# Altium schematic symbol library BWRC.SchLib: 201 symbols (part 2 of 6)
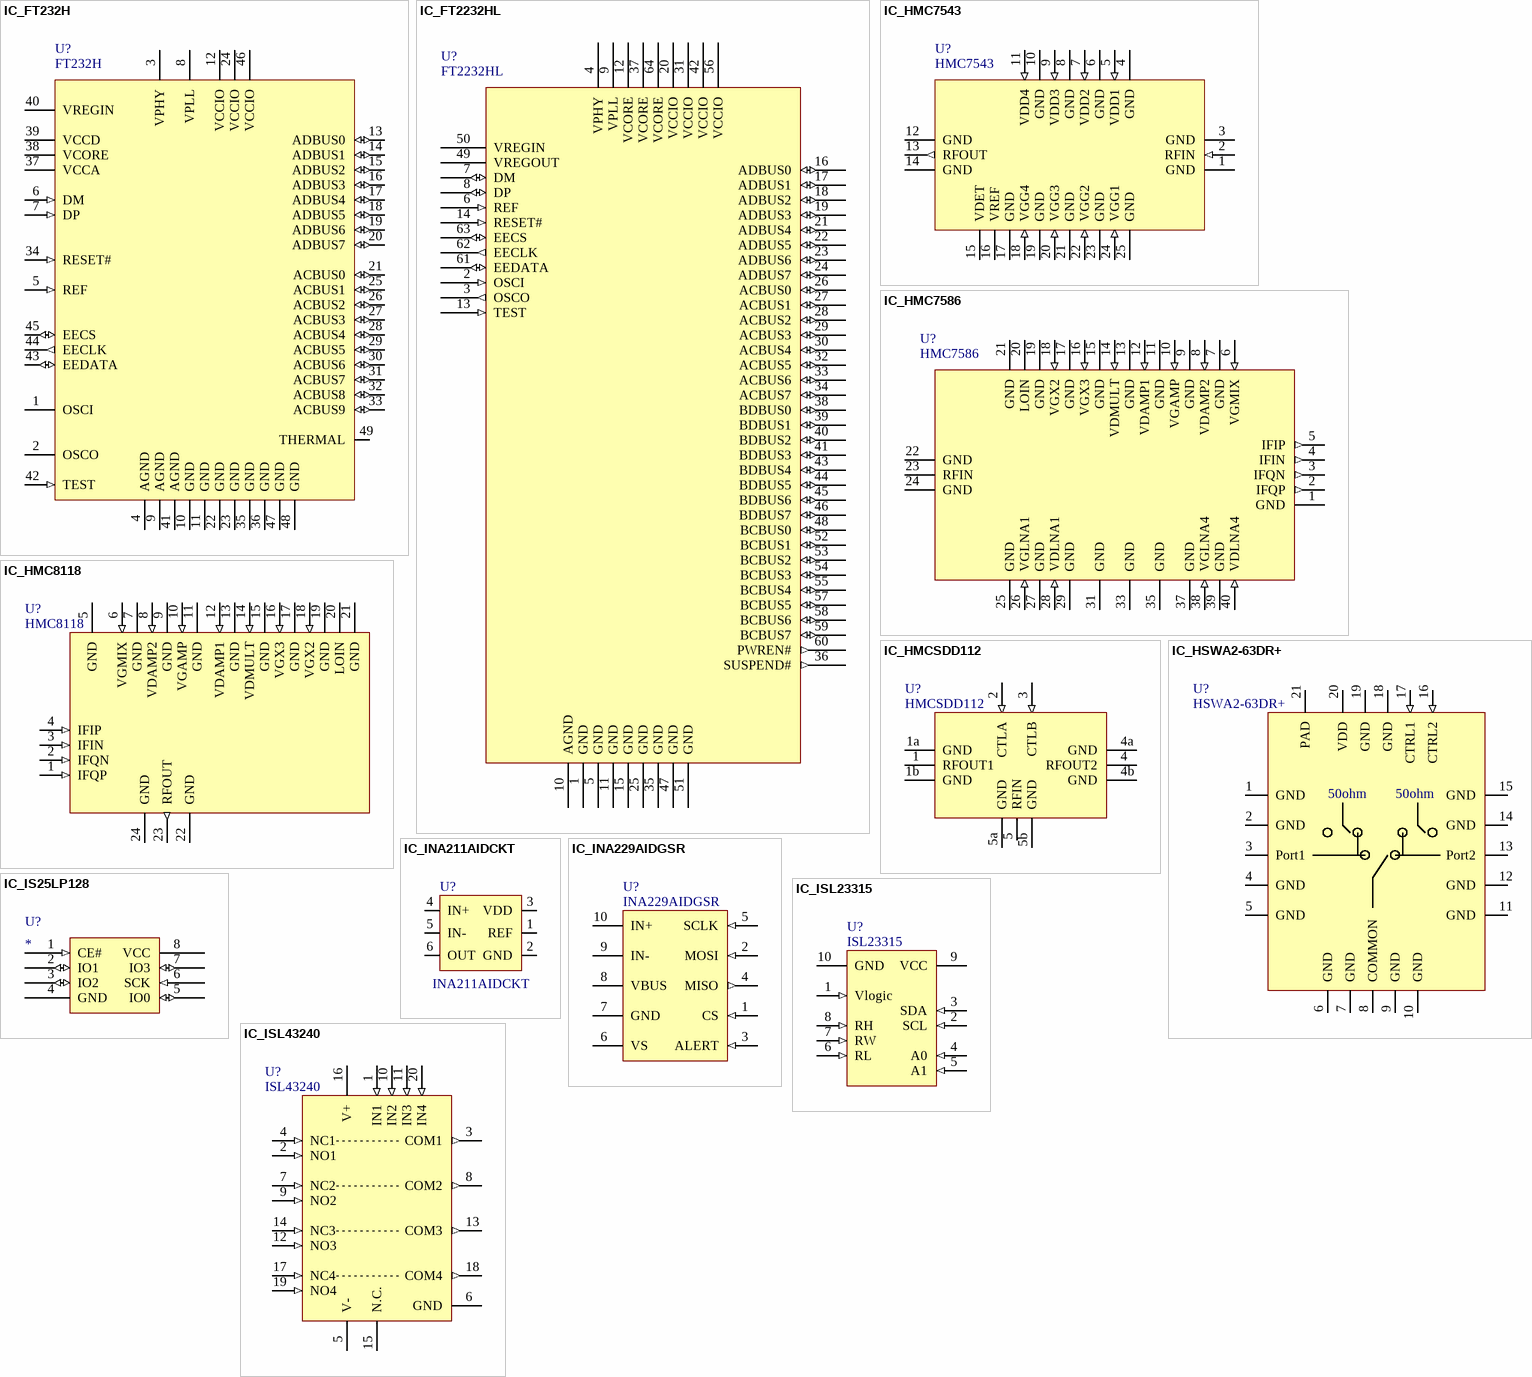
[diagram p32: symbols IC_FT232H to IC_ISL43240]

## IC_HMC7543
designator U?, comment HMC7543
HMC7543 Power amplifier E-band
pins: 1 GND (power), 2 RFIN (in), 3 GND (power), 4 GND (power), 5 VDD1 (in), 6 GND (power), 7 VDD2 (in), 8 GND (power), 9 VDD3 (in), 10 GND (power), 11 VDD4 (in), 12 GND (power), 13 RFOUT (out), 14 GND (power), 15 VDET, 16 VREF, 17 GND (power), 18 VGG4 (in), 19 GND (power), 20 VGG3 (in), 21 GND (power), 22 VGG2 (in), 23 GND (power), 24 VGG1 (in), 25 GND (power)

## IC_HMC7586
designator U?, comment HMC7586
HMC7586 LNA/downconverter E-band
pins: 1 GND (power), 2 IFQP (out), 3 IFQN (out), 4 IFIN (out), 5 IFIP (out), 6 VGMIX (in), 7 GND (power), 8 VDAMP2 (in), 9 GND (power), 10 VGAMP (in), 11 GND (power), 12 VDAMP1 (in), 13 GND (power), 14 VDMULT (in), 15 GND (power), 16 VGX3 (in), 17 GND (power), 18 VGX2 (in), 19 GND (power), 20 LOIN, 21 GND (power), 22 GND (power), 23 RFIN, 24 GND (power), 25 GND (power), 26 VGLNA1 (in), 27 GND (power), 28 VDLNA1 (in), 29 GND (power), 31 GND (power), 33 GND (power), 35 GND (power), 37 GND (power), 38 VGLNA4 (in), 39 GND (power), 40 VDLNA4 (in)

## IC_HMC8118
designator U?, comment HMC8118
HMC8118 Upconverter E-band
pins: 1 IFQP (in), 2 IFQN (in), 3 IFIN (in), 4 IFIP (in), 5 GND (power), 6 VGMIX (in), 7 GND (power), 8 VDAMP2 (in), 9 GND (power), 10 VGAMP (in), 11 GND (power), 12 VDAMP1 (in), 13 GND (power), 14 VDMULT (in), 15 GND (power), 16 VGX3 (in), 17 GND (power), 18 VGX2 (in), 19 GND (power), 20 LOIN, 21 GND (power), 22 GND (power), 23 RFOUT (out), 24 GND (power)

## IC_HMCSDD112
designator U?, comment HMCSDD112
HMCSDD112 Tx/Rcv SPDT RF switch
pins: 1 RFOUT1, 1a GND, 1b GND, 2 CTLA (in), 3 CTLB (in), 4 RFOUT2, 4a GND, 4b GND, 5 RFIN, 5a GND, 5b GND

## IC_HSWA2-63DR+
designator U?, comment HSWA2-63DR+
HSWA2-63DR+ RF T/R switch
pins: 1 GND (power), 2 GND (power), 3 Port1, 4 GND (power), 5 GND (power), 6 GND (power), 7 GND (power), 8 COMMON, 9 GND (power), 10 GND (power), 11 GND (power), 12 GND (power), 13 Port2, 14 GND (power), 15 GND (power), 16 CTRL2 (in), 17 CTRL1 (in), 18 GND (power), 19 GND (power), 20 VDD (power), 21 PAD (power)
text: 50ohm

## IC_INA211AIDCKT
designator U?, comment INA211AIDCKT
Current sense amplifier
pins: 1 REF, 2 GND, 3 VDD, 4 IN+, 5 IN-, 6 OUT

## IC_INA229AIDGSR
designator U?, comment INA229AIDGSR
85-V, 20-bit, ultra-precise, SPI output current/voltage/power/energy/charge monitor with alert</p 10-VSSOP -40 to 125
pins: 1 CS (in), 2 MOSI (in), 3 ALERT (in), 4 MISO (out), 5 SCLK (in), 6 VS (power), 7 GND (power), 8 VBUS, 9 IN-, 10 IN+

## IC_IS25LP128
designator U?
Flash memory 128Mb with 133MHz QSPI
pins: 1 CE# (in), 2 IO1 (io), 3 IO2 (io), 4 GND (power), 5 IO0 (io), 6 SCK (in), 7 IO3 (io), 8 VCC (power)

## IC_ISL23315
designator U?, comment ISL23315
ISL23315 potentiometer digital 10K 256 positions
pins: 1 Vlogic (in), 2 SCL (in), 3 SDA (in), 4 A0 (in), 5 A1 (in), 6 RL (in), 7 RW (in), 8 RH (in), 9 VCC (power), 10 GND (power)

## IC_ISL43240
designator U?, comment ISL43240
ISL43240 switch SPDT quad
pins: 1 IN1 (in), 2 NO1 (in), 3 COM1 (out), 4 NC1 (in), 5 V- (power), 6 GND (power), 7 NC2 (in), 8 COM2 (out), 9 NO2 (in), 10 IN2 (in), 11 IN3 (in), 12 NO3 (in), 13 COM3 (out), 14 NC3 (in), 15 N.C., 16 V+ (power), 17 NC4 (in), 18 COM4 (out), 19 NO4 (in), 20 IN4 (in)

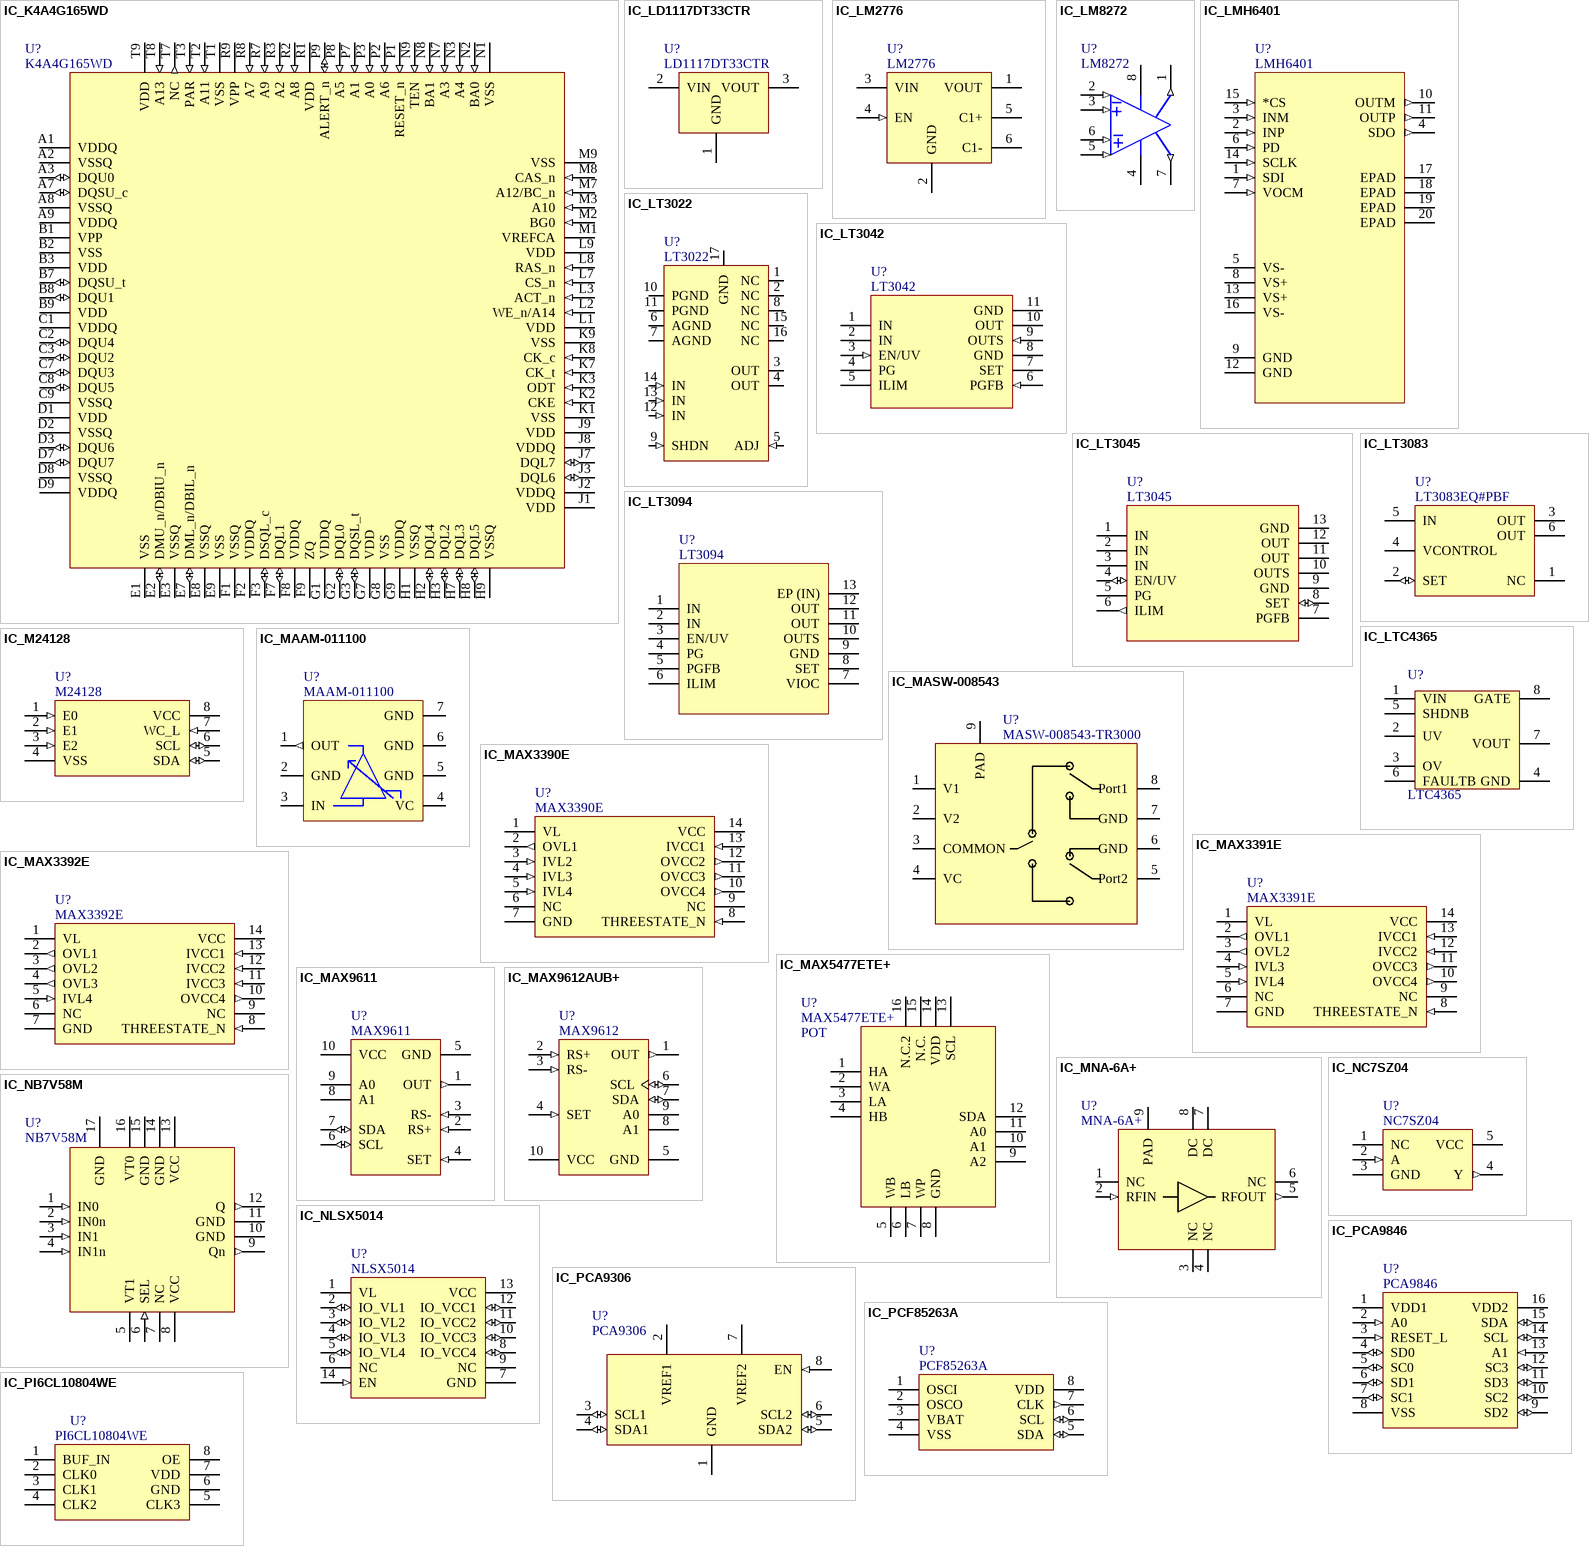
[diagram p9: symbols IC_K4A4G165WD to IC_PI6CL10804WE]

## IC_K4A4G165WD
designator U?, comment K4A4G165WD
K4A4G165WD DDR4 16-bit
pins: A1 VDDQ (power), A2 VSSQ (power), A3 DQU0 (io), A7 DQSU_c (io), A8 VSSQ (power), A9 VDDQ (power), B1 VPP (power), B2 VSS (power), B3 VDD (power), B7 DQSU_t (io), B8 DQU1 (io), B9 VDD (power), C1 VDDQ (power), C2 DQU4 (io), C3 DQU2 (io), C7 DQU3 (io), C8 DQU5 (io), C9 VSSQ (power), D1 VDD (power), D2 VSSQ (power), D3 DQU6 (io), D7 DQU7 (io), D8 VSSQ (power), D9 VDDQ (power), E1 VSS (power), E2 DMU_n/DBIU_n (io), E3 VSSQ (power), E7 DML_n/DBIL_n (io), E8 VSSQ (power), E9 VSS (power), F1 VSSQ (power), F2 VDDQ (power), F3 DSQL_c (io), F7 DQL1 (io), F8 VDDQ (power), F9 ZQ (power), G1 VDDQ (power), G2 DQL0 (io), G3 DQSL_t (io), G7 VDD (power), G8 VSS (power), G9 VDDQ (power), H1 VSSQ (power), H2 DQL4 (io), H3 DQL2 (io), H7 DQL3 (io), H8 DQL5 (io), H9 VSSQ (power), J1 VDD (power), J2 VDDQ (power), J3 DQL6 (io), J7 DQL7 (io), J8 VDDQ (power), J9 VDD (power), K1 VSS (power), K2 CKE (in), K3 ODT (in), K7 CK_t (in), K8 CK_c (in), K9 VSS (power), L1 VDD (power), L2 WE_n/A14 (in), L3 ACT_n (in), L7 CS_n (in), L8 RAS_n (in), L9 VDD (power), M1 VREFCA (power), M2 BG0 (in), M3 A10 (in), M7 A12/BC_n (in), M8 CAS_n (in), M9 VSS (power), N1 VSS (power), N2 BA0 (in), N3 A4 (in), N7 A3 (in), N8 BA1 (in), N9 TEN (in), P1 RESET_n (in), P2 A6 (in), P3 A0 (in), P7 A1 (in), P8 A5 (in), P9 ALERT_n (io), R1 VDD (power), R2 A8 (in), R3 A2 (in), R7 A9 (in), R8 A7 (in), R9 VPP (power), T1 VSS (power), T2 A11 (in), T3 PAR (in), T7 NC (out), T8 A13 (in), T9 VDD (power)

## IC_LD1117DT33CTR
designator U?, comment LD1117DT33CTR
LD1117DT33CTR 3.3V voltage regulator
pins: 1 GND (power), 2 VIN (power), 3 VOUT (power)

## IC_LM2776
designator U?, comment LM2776
LM2776 voltage inverter
pins: 1 VOUT (power), 2 GND (power), 3 VIN (power), 4 EN (in), 5 C1+, 6 C1-

## IC_LM8272
designator U?, comment LM8272
LM8272 op-amp RRIO high output current & unlimited cap load
pins: 1 OUTA (out), 2 INA- (in), 3 INA+ (in), 4 V- (power), 5 INB+ (in), 6 INB- (in), 7 OUTB (out), 8 V+ (power)

## IC_LMH6401
designator U?, comment LMH6401
4.5 GHz ultra wideband digital variable gain amplifier
pins: 1 SDI (in), 2 INP (in), 3 INM (in), 4 SDO (out), 5 VS- (power), 6 PD (in), 7 VOCM (in), 8 VS+ (power), 9 GND (power), 10 OUTM (out), 11 OUTP (out), 12 GND (power), 13 VS+ (power), 14 SCLK (in), 15 *CS (in), 16 VS- (power), 17 EPAD, 18 EPAD, 19 EPAD, 20 EPAD

## IC_LT3022
designator U?, comment LT3022
LT3022 regulator LDO adjustable 1A
pins: 1 NC (power), 2 NC (power), 3 OUT (power), 4 OUT (power), 5 ADJ (in), 6 AGND (power), 7 AGND (power), 8 NC (power), 9 SHDN (in), 10 PGND (power), 11 PGND (power), 12 IN (in), 13 IN (in), 14 IN (in), 15 NC (power), 16 NC (power), 17 GND (power)

## IC_LT3042
designator U?, comment LT3042
LT3042 ultralow noise, high PSRR LDO, max current 200mA
pins: 1 IN, 2 IN, 3 EN/UV (in), 4 PG (power), 5 ILIM, 6 PGFB (in), 7 SET, 8 GND (power), 9 OUTS (in), 10 OUT (power), 11 GND (power)

## IC_LT3045
designator U?, comment LT3045
LT3045 ultralow noise, high PSRR LDO, max current 500mA
pins: 1 IN, 2 IN, 3 IN, 4 EN/UV (io), 5 PG (power), 6 ILIM (out), 7 PGFB, 8 SET (io), 9 GND (power), 10 OUTS, 11 OUT, 12 OUT, 13 GND (power)

## IC_LT3083
designator U?, comment LT3083EQ#PBF
3 A Single Resistor Low Dropout Regulator, 1.2 to 23 V Vin, Adjustable Vout, 5-pin DPAK (Q-5), -40 to 125 degC, Pb-Free
footprint LT-Q-5_L (DPAK, 5-Leads, Body 10.22x8.89mm, Pitch 1.702mm, IPC High Density)
footprint LT-Q-5_M (DPAK, 5-Leads, Body 10.22x8.89mm, Pitch 1.702mm, IPC Low Density)
pins: 1 NC "No Connection. No Connect pins have no connection to internal circuitry and may be tied to VIN, VCONTROL, VOUT, GND, or floated.", 2 SET (io) "Set Point. This pin is the non-inverting input to the error amplifier and the regulation set point. A fixed current of 50uA flows out of this pin through a single external resistor, which programs the output voltage of the (See Datasheet)", 3 OUT (power) "Output. The exposed pad of the DF package (Pin 13) and the FE package (Pin 17) and the Tab of the DD-PAK and TO-220 packages is an electrical connection to OUT. Connect the exposed pad of the DF and FE packages and the Tab (See Datasheet)", 4 VCONTROL (power) "Bias Supply. This is the supply pin for the control circuitry of the device. Minimum input capacitance is 2.2uF (see Input Capacitance and Stability in the Applications Information section). The current flow into this pin is (See Datasheet)", 5 IN (power) "Power Input. This is the collector to the power device of the LT3083. The output load current is supplied through this pin. Minimum IN capacitance is 10uF (see Input Capacitance and Stability in Applications Information (See Datasheet)", 6 OUT (power) "TAB IS OUT."

## IC_LT3094
designator U?, comment LT3094
LT3094 Ultralow Noise, Ultrahigh PSRR Negative Linear Regulator
pins: 1 IN, 2 IN, 3 EN/UV, 4 PG, 5 PGFB, 6 ILIM, 7 VIOC, 8 SET, 9 GND, 10 OUTS, 11 OUT, 12 OUT, 13 EP (IN)

## IC_LTC4365
designator U?, comment LTC4365
LTC4365 Over/Under Voltage, Reverse Supply Protection Controller
pins: 1 VIN, 2 UV, 3 OV, 4 GND, 5 SHDNB, 6 FAULTB, 7 VOUT, 8 GATE

## IC_M24128
designator U?, comment M24128
M24128 EEPROM 16KiB (128Kib) I2C
pins: 1 E0 (in), 2 E1 (in), 3 E2 (in), 4 VSS (power), 5 SDA (io), 6 SCL (io), 7 WC_L (in), 8 VCC (power)

## IC_MAAM-011100
designator U?, comment MAAM-011100
MAAM-011100 High-frequency variable gain amplifier
pins: 1 OUT (out), 2 GND (power), 3 IN, 4 VC, 5 GND (power), 6 GND (power), 7 GND (power)

## IC_MASW-008543
designator U?, comment MASW-008543-TR3000
MASW-008543-TR3000 RF T/R switch
pins: 1 V1, 2 V2, 3 COMMON, 4 VC, 5 Port2, 6 GND (power), 7 GND (power), 8 Port1, 9 PAD (power)

## IC_MAX3390E
designator U?, comment MAX3390E
MAX3390E Maxim 33-series level translator with 3 low-voltage inputs and 1 low-voltage output. Useful for low-to-high SPI buses. TSSOP-14 pinout used.
pins: 1 VL (power) "low voltage supply", 2 OVL1 (out) "channel 1 out (low voltage)", 3 IVL2 (in) "channel 2 in (low voltage)", 4 IVL3 (in) "channel 3 in (low voltage)", 5 IVL4 (in) "channel 4 in (low voltage)", 6 NC (hiz) "do not connect", 7 GND (power) "ground", 8 THREESTATE_N (in) "(low voltage) high = outputs enabled, low = outputs disabled", 9 NC (hiz) "do not connect", 10 OVCC4 (out) "channel 4 out (high voltage)", 11 OVCC3 (out) "channel 3 out (high voltage)", 12 OVCC2 (out) "channel 2 out (high voltage)", 13 IVCC1 (in) "channel 1 in (high voltage)", 14 VCC (power) "high voltage supply"

## IC_MAX3391E
designator U?, comment MAX3391E
MAX3391E Maxim 33-series level translator with 2 low-voltage inputs and 2 low-voltage outputs. TSSOP-14 pinout used.
pins: 1 VL (power) "low voltage supply", 2 OVL1 (out) "channel 1 out (low voltage)", 3 OVL2 (out) "channel 2 out (low voltage)", 4 IVL3 (in) "channel 3 in (low voltage)", 5 IVL4 (in) "channel 4 in (low voltage)", 6 NC (hiz) "do not connect", 7 GND (power) "ground", 8 THREESTATE_N (in) "(low voltage) high = outputs enabled, low = outputs disabled", 9 NC (hiz) "do not connect", 10 OVCC4 (out) "channel 4 out (high voltage)", 11 OVCC3 (out) "channel 3 out (high voltage)", 12 IVCC2 (in) "channel 2 in (high voltage)", 13 IVCC1 (in) "channel 1 in (high voltage)", 14 VCC (power) "high voltage supply"

## IC_MAX3392E
designator U?, comment MAX3392E
MAX3392E Maxim 33-series level translator with 1 low-voltage input and 3 low-voltage outputs. TSSOP-14 pinout used.
pins: 1 VL (power) "low voltage supply", 2 OVL1 (out) "channel 1 out (low voltage)", 3 OVL2 (out) "channel 2 out (low voltage)", 4 OVL3 (out) "channel 3 out (low voltage)", 5 IVL4 (in) "channel 4 in (low voltage)", 6 NC (hiz) "do not connect", 7 GND (power) "ground", 8 THREESTATE_N (in) "(low voltage) high = outputs enabled, low = outputs disabled", 9 NC (hiz) "do not connect", 10 OVCC4 (out) "channel 4 out (high voltage)", 11 IVCC3 (in) "channel 3 in (high voltage)", 12 IVCC2 (in) "channel 2 in (high voltage)", 13 IVCC1 (in) "channel 1 in (high voltage)", 14 VCC (power) "high voltage supply"

## IC_MAX5477ETE+
designator U?, comment MAX5477ETE+
MAX5477ETE+ Digital pot 256pos 10K dual 16-Pin TQFN EP
pins: 1 HA, 2 WA, 3 LA, 4 HB, 5 WB, 6 LB, 7 WP, 8 GND, 9 A2, 10 A1, 11 A0, 12 SDA, 13 SCL, 14 VDD, 15 N.C., 16 N.C.2
text: POT

## IC_MAX9611
designator U?, comment MAX9611
MAX9611 op-amp current sense 2.5MHz
pins: 1 OUT (out), 2 RS+ (in), 3 RS- (in), 4 SET (in), 5 GND (power), 6 SCL (io), 7 SDA (io), 8 A1, 9 A0, 10 VCC

## IC_MAX9612AUB+
designator U?, comment MAX9612
MAX9612 High-side Current-Sense Amplifier with 12-bit I2C ADC and Op Amp / Comparator - Inverting, Adjustable Gain
pins: 1 OUT (out) "Internal Amplifier/Comparator Output", 2 RS+ (in) "Positive Current-Sensing Input. Power side connects to external sense resistor.", 3 RS- (in) "Negative Current-Sensing Input. Load side connects to external sense resistor.", 4 SET (in) "External Set-Point Voltage", 5 GND (power) "Ground", 6 SCL (io) "I2C Interface Clock Input", 7 SDA (io) "I2C Interface Data Input/Output", 8 A1 "Address Input 1", 9 A0 "Address Input 0", 10 VCC (power) "Supply Voltage Input. Bypass VCC to GND with a 0.1uF and a 4.7uF capacitor in parallel."

## IC_MNA-6A+
designator U?, comment MNA-6A+
MNA-6A+ RF power amplifier
pins: 1 NC, 2 RFIN (in), 3 NC, 4 NC, 5 RFOUT (out), 6 NC, 7 DC, 8 DC, 9 PAD (power)

## IC_NB7V58M
designator U?, comment NB7V58M
NB7V58M LVDS Clock/Data Multiplexer
pins: 1 IN0 (in) "Input 0 +", 2 IN0n (in) "Input 0 -", 3 IN1 (in) "Input 1 +", 4 IN1n (in) "Input 1 -", 5 VT1 "Term voltage 1", 6 SEL (in) "Select (pulled-high)", 7 NC (hiz) "No connect", 8 VCC (power) "Supply", 9 Qn (out) "Output -", 10 GND (power) "Ground", 11 GND (power) "Ground", 12 Q (out) "Output +", 13 VCC (power) "Supply", 14 GND (power) "Ground", 15 GND (power) "Ground", 16 VT0 "Term voltage 0", 17 GND (power) "Ground"

## IC_NC7SZ04
designator U?, comment NC7SZ04
NC7SZ04 Logic Inverter
pins: 1 NC (hiz), 2 A (in), 3 GND (power), 4 Y (out), 5 VCC (power)

## IC_NLSX5014
designator U?, comment NLSX5014
NLSX5014 level shifter bidirectional 4-channel
pins: 1 VL (power), 2 IO_VL1 (io), 3 IO_VL2 (io), 4 IO_VL3 (io), 5 IO_VL4 (io), 6 NC (hiz), 7 GND (power), 8 IO_VCC4 (io), 9 NC (hiz), 10 IO_VCC3 (io), 11 IO_VCC2 (io), 12 IO_VCC1 (io), 13 VCC (power), 14 EN (in)

## IC_PCA9306
designator U?, comment PCA9306
PCA9306 level shifter I2C
pins: 1 GND (power), 2 VREF1 (power), 3 SCL1 (io), 4 SDA1 (io), 5 SDA2 (io), 6 SCL2 (io), 7 VREF2 (power), 8 EN (in)

## IC_PCA9846
designator U?, comment PCA9846
PCA9846 low voltage 4:1 mux with level-shifting I2C
pins: 1 VDD1 (power), 2 A0 (in), 3 RESET_L (in), 4 SD0 (io), 5 SC0 (io), 6 SD1 (io), 7 SC1 (io), 8 VSS (power), 9 SD2 (io), 10 SC2 (io), 11 SD3 (io), 12 SC3 (io), 13 A1 (in), 14 SCL (io), 15 SDA (io), 16 VDD2 (power)

## IC_PCF85263A
designator U?, comment PCF85263A
PCF85263A real time clock w/ battery input I2C
pins: 1 OSCI, 2 OSCO, 3 VBAT (power), 4 VSS (power), 5 SDA (io), 6 SCL (io), 7 CLK (out), 8 VDD (power)

## IC_PI6CL10804WE
designator U?, comment PI6CL10804WE
1:4 Clock Buffer, Max 200MHz, 3.3V tolerant input, 1.2V or 1.5V supply voltage
pins: 1 BUF_IN, 2 CLK0, 3 CLK1, 4 CLK2, 5 CLK3, 6 GND, 7 VDD, 8 OE

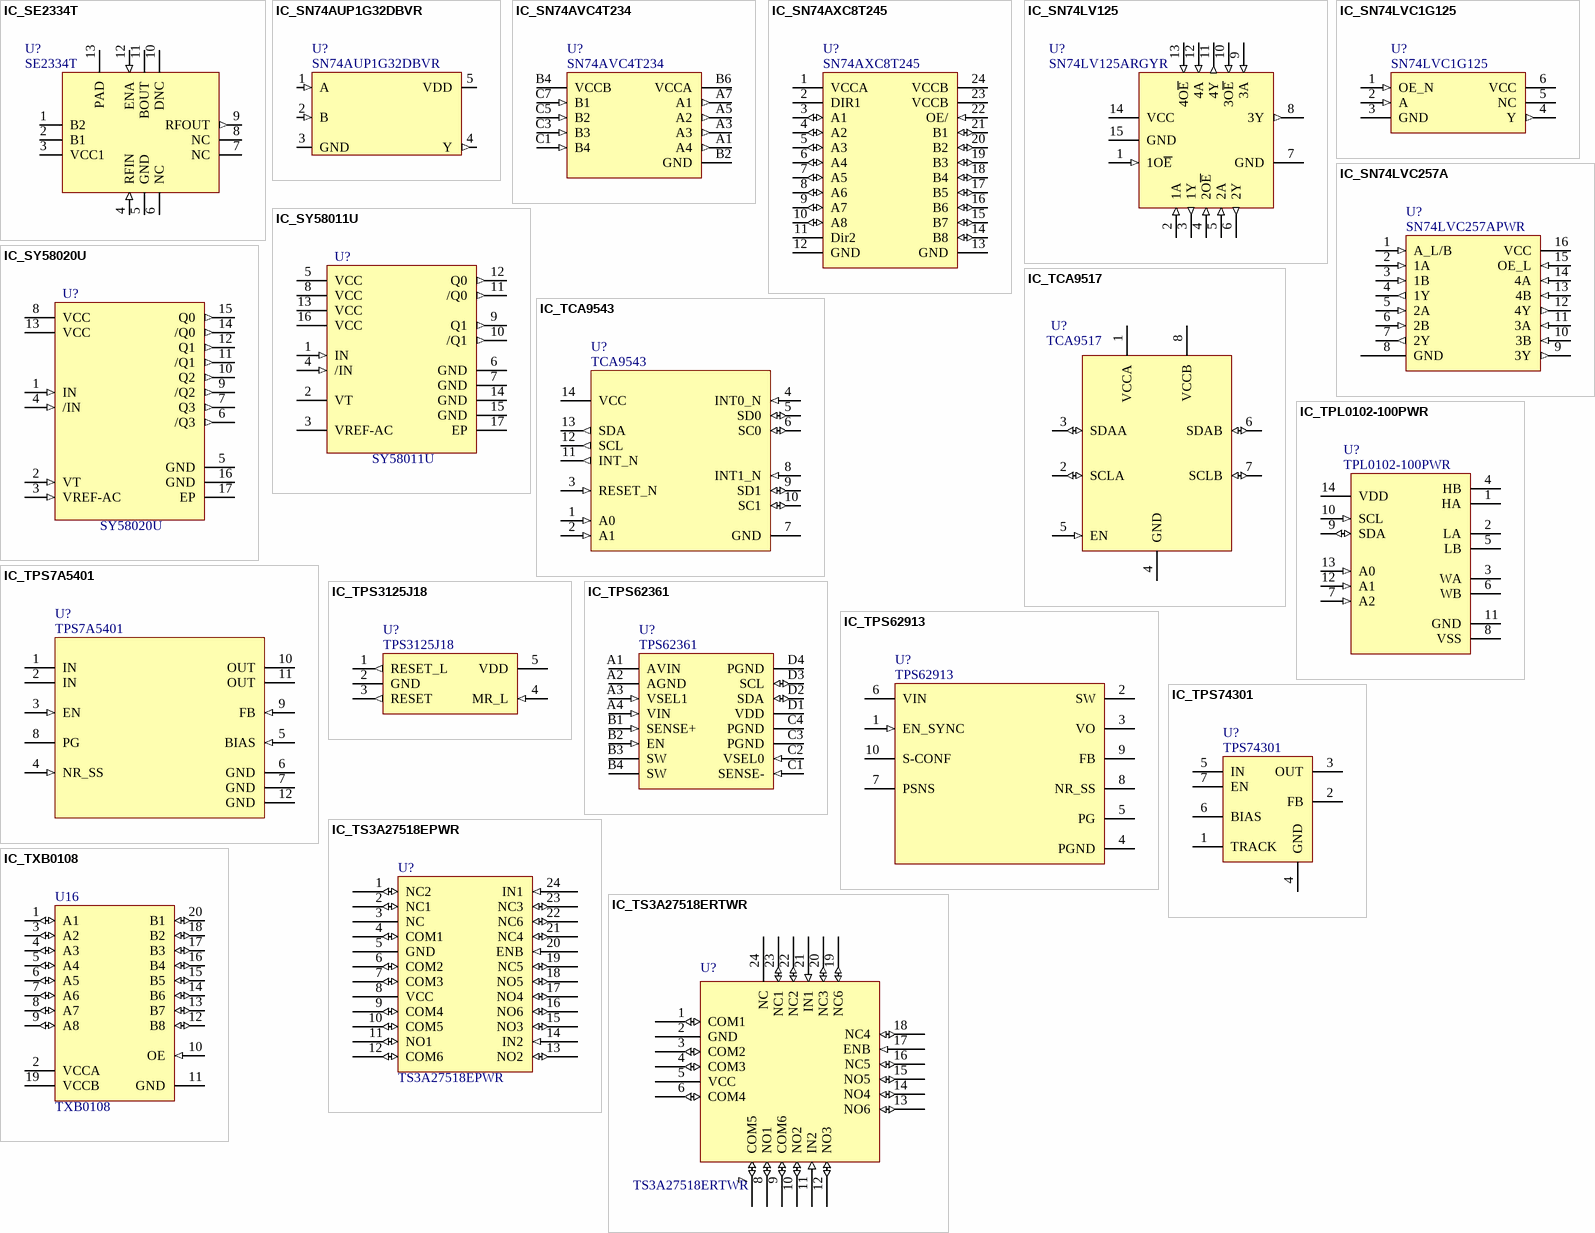
[diagram p10: symbols IC_SE2334T to IC_TXB0108]

## IC_SE2334T
designator U?, comment SE2334T
SE2334T RF power amplifier
pins: 1 B2, 2 B1, 3 VCC1 (power), 4 RFIN (in), 5 GND (power), 6 NC, 7 NC, 8 NC, 9 RFOUT (out), 10 DNC, 11 BOUT, 12 ENA (in), 13 PAD (power)

## IC_SN74AUP1G32DBVR
designator U?, comment SN74AUP1G32DBVR
Low-Power Single 2-Input Positive-OR Gate
pins: 1 A (in), 2 B (in), 3 GND (power), 4 Y (out), 5 VDD (power)

## IC_SN74AVC4T234
designator U?, comment SN74AVC4T234
SN74AVC4T234 level shifter 4-ch unidirectional
pins: A1 A4 (out), A3 (out), A5 A2 (out), A7 A1 (out), B2 GND (power), B4 VCCB (power), B6 VCCA (power), C1 B4 (in), C3 B3 (in), C5 B2 (in), C7 B1 (in)

## IC_SN74AXC8T245
designator U?, comment SN74AXC8T245
SN74AXC8T245 level shifter 8-ch unidirectional
pins: 1 VCCA (power), 2 DIR1, 3 A1 (io), 4 A2 (io), 5 A3 (io), 6 A4 (io), 7 A5 (io), 8 A6 (io), 9 A7 (io), 10 A8 (io), 11 Dir2, 12 GND (power), 13 GND (power), 14 B8 (io), 15 B7 (io), 16 B6 (io), 17 B5 (io), 18 B4 (io), 19 B3 (io), 20 B2 (io), 21 B1 (io), 22 OE/ (in), 23 VCCB (power), 24 VCCB (power)

## IC_SN74LV125
designator U?, comment SN74LV125ARGYR
SN74LV125ARGYR buffer translator 4-ch
pins: 1 1O~{E} (in), 2 1A (in), 3 1Y (out), 4 2O~{E} (in), 5 2A (in), 6 2Y (out), 7 GND (power), 8 3Y (out), 9 3A (in), 10 3O~{E} (in), 11 4Y (out), 12 4A (in), 13 4O~{E} (in), 14 VCC (power), 15 GND (power)

## IC_SN74LVC1G125
designator U?, comment SN74LVC1G125
SN74LVC1G125 Single bus buffer gate with 3-state output (6-pin package)
pins: 1 OE_N (in) "high = output disabled, low = output enabled", 2 A (in) "data input", 3 GND (power) "ground", 4 Y (out) "data output", 5 NC (hiz) "not connected", 6 VCC (power) "supply (1.65V - 5.5V)"

## IC_SN74LVC257A
designator U?, comment SN74LVC257APWR
SN74LVC257 4x 2:1 mux with output enable
pins: 1 A_L/B (in), 2 1A (in), 3 1B (in), 4 1Y (out), 5 2A (in), 6 2B (in), 7 2Y (out), 8 GND (power), 9 3Y (out), 10 3B (in), 11 3A (in), 12 4Y (out), 13 4B (in), 14 4A (in), 15 OE_L (in), 16 VCC (power)

## IC_SY58011U
designator U?, comment SY58011U
Low Skew Clock Driver 1:2 CML
pins: 1 IN (in), 2 VT, 3 VREF-AC, 4 /IN (in), 5 VCC (power), 6 GND (power), 7 GND (power), 8 VCC (power), 9 Q1 (out), 10 /Q1 (out), 11 /Q0 (out), 12 Q0 (out), 13 VCC (power), 14 GND (power), 15 GND (power), 16 VCC (power), 17 EP (power)

## IC_SY58020U
designator U?, comment SY58020U
Low Skew Clock Driver 1:4 CML
pins: 1 IN (in), 2 VT (in), 3 VREF-AC (in), 4 /IN (in), 5 GND (power), 6 /Q3 (out), 7 Q3 (out), 8 VCC (power), 9 /Q2 (out), 10 Q2 (out), 11 /Q1 (out), 12 Q1 (out), 13 VCC (power), 14 /Q0 (out), 15 Q0 (out), 16 GND (power), 17 EP (power)

## IC_TCA9517
designator U?, comment TCA9517
TCA9517 Level-Shifting I2C Bus Repeater
pins: 1 VCCA (power), 2 SCLA (io), 3 SDAA (io), 4 GND (power), 5 EN (in), 6 SDAB (io), 7 SCLB (io), 8 VCCB (power)

## IC_TCA9543
designator U?, comment TCA9543
Low Voltage 2-Channel I2C Bus Switch With Interrupt Logic And Reset
pins: 1 A0 (in), 2 A1 (in), 3 RESET_N (in), 4 INT0_N (in), 5 SD0 (io), 6 SC0 (io), 7 GND (power), 8 INT1_N (in), 9 SD1 (io), 10 SC1 (io), 11 INT_N (out), 12 SCL (out), 13 SDA (out), 14 VCC (power)

## IC_TPL0102-100PWR
designator U?, comment TPL0102-100PWR
Digital pot 100K
pins: 1 HA, 2 LA, 3 WA, 4 HB, 5 LB, 6 WB, 7 A2 (in), 8 VSS (power), 9 SDA (io), 10 SCL (in), 11 GND (power), 12 A1 (in), 13 A0 (in), 14 VDD (power)

## IC_TPS7A5401
designator U?, comment TPS7A5401
High-Accuracy (0.5%), Low-Noise (4.4 µVRMS), LDO Voltage Regulator
pins: 1 IN (power), 2 IN (power), 3 EN (in), 4 NR_SS (in), 5 BIAS (in), 6 GND (power), 7 GND (power), 8 PG (oc), 9 FB (in), 10 OUT (power), 11 OUT (power), 12 GND (power)

## IC_TPS3125J18
designator U?, comment TPS3125J18
TPS3125J18 Power-On Reset Generator / 1.62V threshold (1.8V supply)
pins: 1 RESET_L (out), 2 GND (power), 3 RESET (out), 4 MR_L (in), 5 VDD (power)

## IC_TPS62361
designator U?, comment TPS62361
TPS62361 regulator switching positive adjustable
pins: A1 AVIN (power), A2 AGND (power), A3 VSEL1 (in), A4 VIN (in), B1 SENSE+ (in), B2 EN (in), B3 SW, B4 SW, C1 SENSE- (in), C2 VSEL0 (in), C3 PGND (power), C4 PGND (power), D1 VDD (power), D2 SDA (io), D3 SCL (io), D4 PGND (power)

## IC_TPS62913
designator U?, comment TPS62913
17-VIN, 3-A low noise and low ripple buck converter with integrated ferrite bead filter compensation
pins: 1 EN_SYNC (in), 2 SW, 3 VO, 4 PGND (power), 5 PG (oc), 6 VIN (power), 7 PSNS, 8 NR_SS, 9 FB, 10 S-CONF

## IC_TPS74301
designator U?, comment TPS74301
LDO Regulator Pos 0.796V to 3.6V 1.5A 8-Pin(7+Tab) TO-263 T/R
pins: 1 TRACK, 2 FB, 3 OUT, 4 GND (power), 5 IN, 6 BIAS, 7 EN

## IC_TS3A27518EPWR
designator U?, comment TS3A27518EPWR
Analog switch SPDT 6 channels bidirectional
pins: 1 NC2 (io), 2 NC1 (io), 3 NC, 4 COM1 (io), 5 GND (power), 6 COM2 (io), 7 COM3 (io), 8 VCC (power), 9 COM4 (io), 10 COM5 (io), 11 NO1 (io), 12 COM6 (io), 13 NO2 (io), 14 IN2 (in), 15 NO3 (io), 16 NO6 (io), 17 NO4 (io), 18 NO5 (io), 19 NC5 (io), 20 ENB (in), 21 NC4 (io), 22 NC6 (io), 23 NC3 (io), 24 IN1 (in)

## IC_TS3A27518ERTWR
designator U?, comment TS3A27518ERTWR
Analog switch SPDT 6 channels bidirectional
pins: 1 COM1 (io), 2 GND (power), 3 COM2 (io), 4 COM3 (io), 5 VCC (power), 6 COM4 (io), 7 COM5 (io), 8 NO1 (io), 9 COM6 (io), 10 NO2 (io), 11 IN2 (in), 12 NO3 (io), 13 NO6 (io), 14 NO4 (io), 15 NO5 (io), 16 NC5 (io), 17 ENB (in), 18 NC4 (io), 19 NC6 (io), 20 NC3 (io), 21 IN1 (in), 22 NC2 (io), 23 NC1 (io), 24 NC

## IC_TXB0108
designator U16, comment TXB0108
TXB0108 8-bit bi-directional level shifter w/direction sensing
pins: 1 A1 (io) "Input/output 1. Referenced to VCCA.", 2 VCCA (power) "A-port supply voltage. 1.1 V =< VCCA =< 3.6 V, VCCA =< VCCB.", 3 A2 (io) "Input/output 2. Referenced to VCCA.", 4 A3 (io) "Input/output 3. Referenced to VCCA.", 5 A4 (io) "Input/output 4. Referenced to VCCA.", 6 A5 (io) "Input/output 5. Referenced to VCCA.", 7 A6 (io) "Input/output 6. Referenced to VCCA.", 8 A7 (io) "Input/output 7. Referenced to VCCA.", 9 A8 (io) "Input/output 8. Referenced to VCCA.", 10 OE (in) "Output enable. Pull OE low to place all outputs in 3-state mode. Referenced to VCCA.", 11 GND (power) "Ground", 12 B8 (io) "Input/output 8. Referenced to VCCB.", 13 B7 (io) "Input/output 7. Referenced to VCCB.", 14 B6 (io) "Input/output 6. Referenced to VCCB.", 15 B5 (io) "Input/output 5. Referenced to VCCB.", 16 B4 (io) "Input/output 4. Referenced to VCCB.", 17 B3 (io) "Input/output 3. Referenced to VCCB.", 18 B2 (io) "Input/output 2. Referenced to VCCB.", 19 VCCB (power) "B-port supply voltage. 1.65 V =< VCCB =< 5.5 V.", 20 B1 (io) "Input/output 1. Referenced to VCCB."

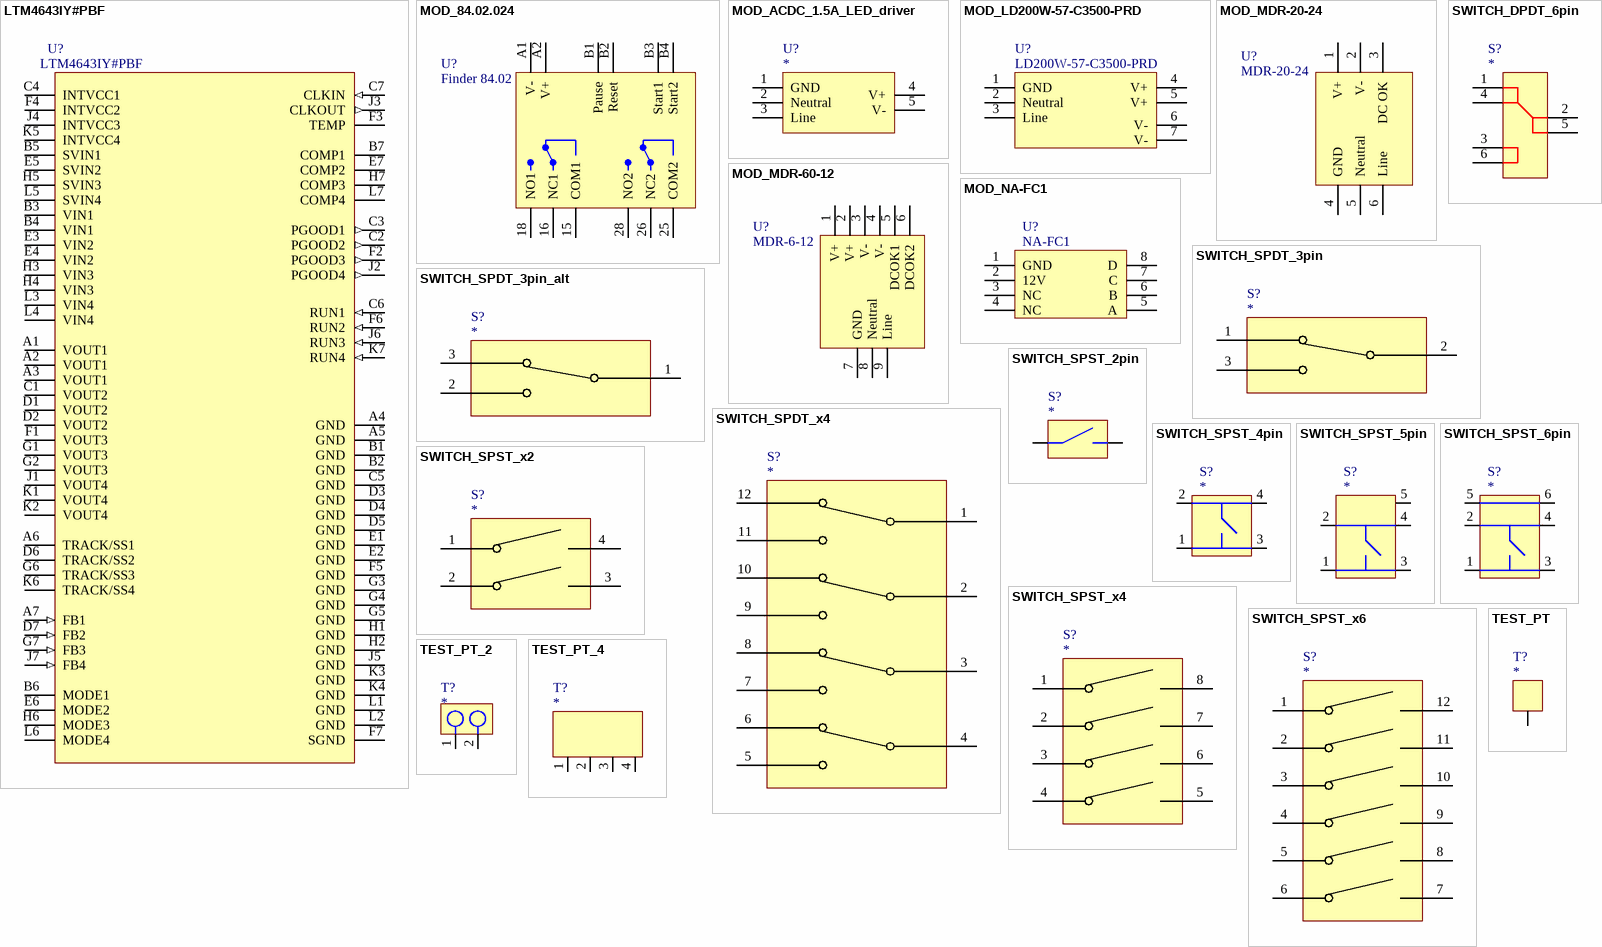
[diagram p11: symbols LTM4643IY#PBF to TEST_PT_4]

## LTM4643IY#PBF
designator U?
DC-DC converter controller
pins: A1 VOUT1 (power), A2 VOUT1 (power), A3 VOUT1 (power), A4 GND (power), A5 GND (power), A6 TRACK/SS1 (power), A7 FB1 (in), B1 GND (power), B2 GND (power), B3 VIN1 (power), B4 VIN1 (power), B5 SVIN1 (power), B6 MODE1 (power), B7 COMP1, C1 VOUT2 (power), C2 PGOOD2 (out), C3 PGOOD1 (out), C4 INTVCC1 (power), C5 GND (power), C6 RUN1 (in), C7 CLKIN (in), D1 VOUT2 (power), D2 VOUT2 (power), D3 GND (power), D4 GND (power), D5 GND (power), D6 TRACK/SS2 (power), D7 FB2 (in), E1 GND (power), E2 GND (power), E3 VIN2 (power), E4 VIN2 (power), E5 SVIN2 (power), E6 MODE2 (power), E7 COMP2, F1 VOUT3 (power), F2 PGOOD3 (out), F3 TEMP, F4 INTVCC2 (power), F5 GND (power), F6 RUN2 (in), F7 SGND (power), G1 VOUT3 (power), G2 VOUT3 (power), G3 GND (power), G4 GND (power), G5 GND (power), G6 TRACK/SS3 (power), G7 FB3 (in), H1 GND (power), H2 GND (power), H3 VIN3 (power), H4 VIN3 (power), H5 SVIN3 (power), H6 MODE3 (power), H7 COMP3, J1 VOUT4 (power), J2 PGOOD4 (out), J3 CLKOUT (out), J4 INTVCC3 (power), J5 GND (power), J6 RUN3 (in), J7 FB4 (in), K1 VOUT4 (power), K2 VOUT4 (power), K3 GND (power), K4 GND (power), K5 INTVCC4 (power), K6 TRACK/SS4 (power), K7 RUN4 (in), L1 GND (power), L2 GND (power), L3 VIN4 (power), L4 VIN4 (power), L5 SVIN4 (power), L6 MODE4 (power), L7 COMP4

## MOD_84.02.024
designator U?, comment Finder 84.02
Module Finder 84.02 2-ch time delay relay
pins: 15 COM1, 16 NC1, 18 NO1, 25 COM2, 26 NC2, 28 NO2, A1  V-, A2 V+, B1 Pause, B2 Reset, B3 Start1, B4 Start2

## MOD_ACDC_1.5A_LED_driver
designator U?
AC/DC 1.5A const current LED driver
pins: 1 GND, 2 Neutral, 3 Line, 4 V+, 5 V-

## MOD_LD200W-57-C3500-PRD
designator U?, comment LD200W-57-C3500-PRD
EPtronics AC/DC 3.5A const current LED driver
pins: 1 GND, 2 Neutral, 3 Line, 4 V+, 5 V+, 6 V-, 7 V-

## MOD_MDR-20-24
designator U?, comment MDR-20-24
Module Mean Well MDR-20-24 24V supply
pins: 1 V+, 2  V-, 3 DC OK, 4 GND, 5 Neutral, 6 Line

## MOD_MDR-60-12
designator U?, comment MDR-6-12
Module Mean Well MDR-60-12 12V supply
pins: 1 V+, 2  V+, 3 V-, 4 V-, 5 DCOK1, 6 DCOK2, 7 GND, 8 Neutral, 9 Line

## MOD_NA-FC1
designator U?, comment NA-FC1
Noctua PWM fan controller
pins: 1 GND, 2 12V, 3 NC, 4 NC, 5 A, 6 B, 7 C, 8 D

## SWITCH_DPDT_6pin
designator S?
SWITCH SLIDE DPDT
pins: 1, 2, 3, 4, 5, 6

## SWITCH_SPDT_3pin
designator S?
SWITCH SLIDE SPDT
pins: 1, 2 3, 3 2

## SWITCH_SPDT_3pin_alt
designator S?
SWITCH SLIDE SPDT alternative symbol
pins: 1, 2, 3

## SWITCH_SPDT_x4
designator S?
SWITCH SLIDE SPDT 4 switches
pins: 1 P1, 2 P2, 3 P3, 4 P4, 5 T4B, 6 T4A, 7 T3B, 8 T3A, 9 T2B, 10 T2A, 11 T1B, 12 T1A

## SWITCH_SPST_2pin
designator S?
Switch 2 pins
pins: 1, 2

## SWITCH_SPST_4pin
designator S?
Switch 4 pins
pins: 1 T, 2 P, 3 T, 4 T

## SWITCH_SPST_5pin
designator S?
Switch 5 pins
pins: 1, 2, 3, 4, 5

## SWITCH_SPST_6pin
designator S?
Switch 6 pins
pins: 1, 2, 3, 4, 5, 6

## SWITCH_SPST_x2
designator S?
SWITCH DIP SPST x2
pins: 1, 2, 3, 4

## SWITCH_SPST_x4
designator S?
SWITCH DIP SPST x4
pins: 1, 2, 3, 4, 5, 6, 7, 8

## SWITCH_SPST_x6
designator S?
SWITCH DIP SPST x6
pins: 1, 2, 3, 4, 5, 6, 7, 8, 9, 10, 11, 12

## TEST_PT
designator T?
Test point 1 pin
pins: 1

## TEST_PT_2
designator T?
Test point 2 pads for probing
pins: 1, 2

## TEST_PT_4
designator T?
Test point 4 pads for probing
pins: 1 TST, 2 GND, 3 GND, 4 GND

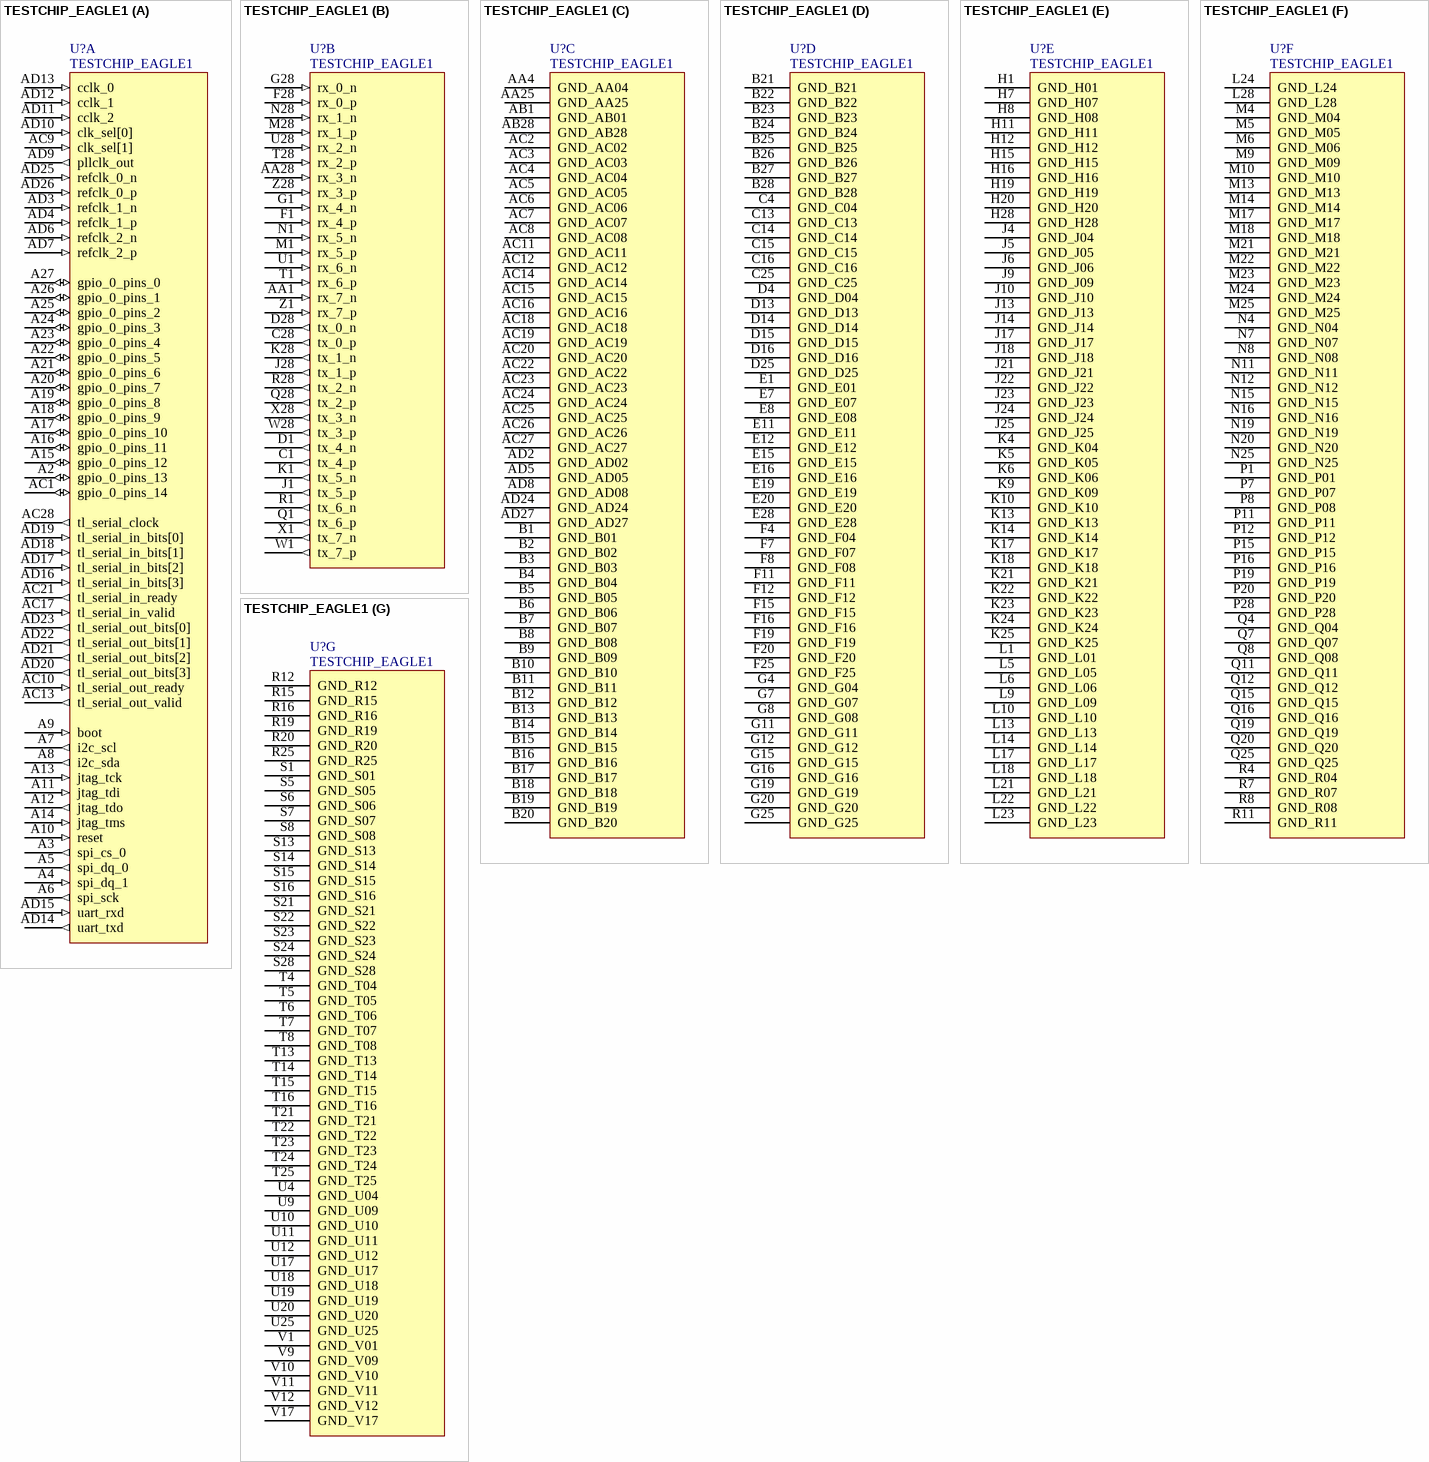
[diagram p12: symbol TESTCHIP_EAGLE1]

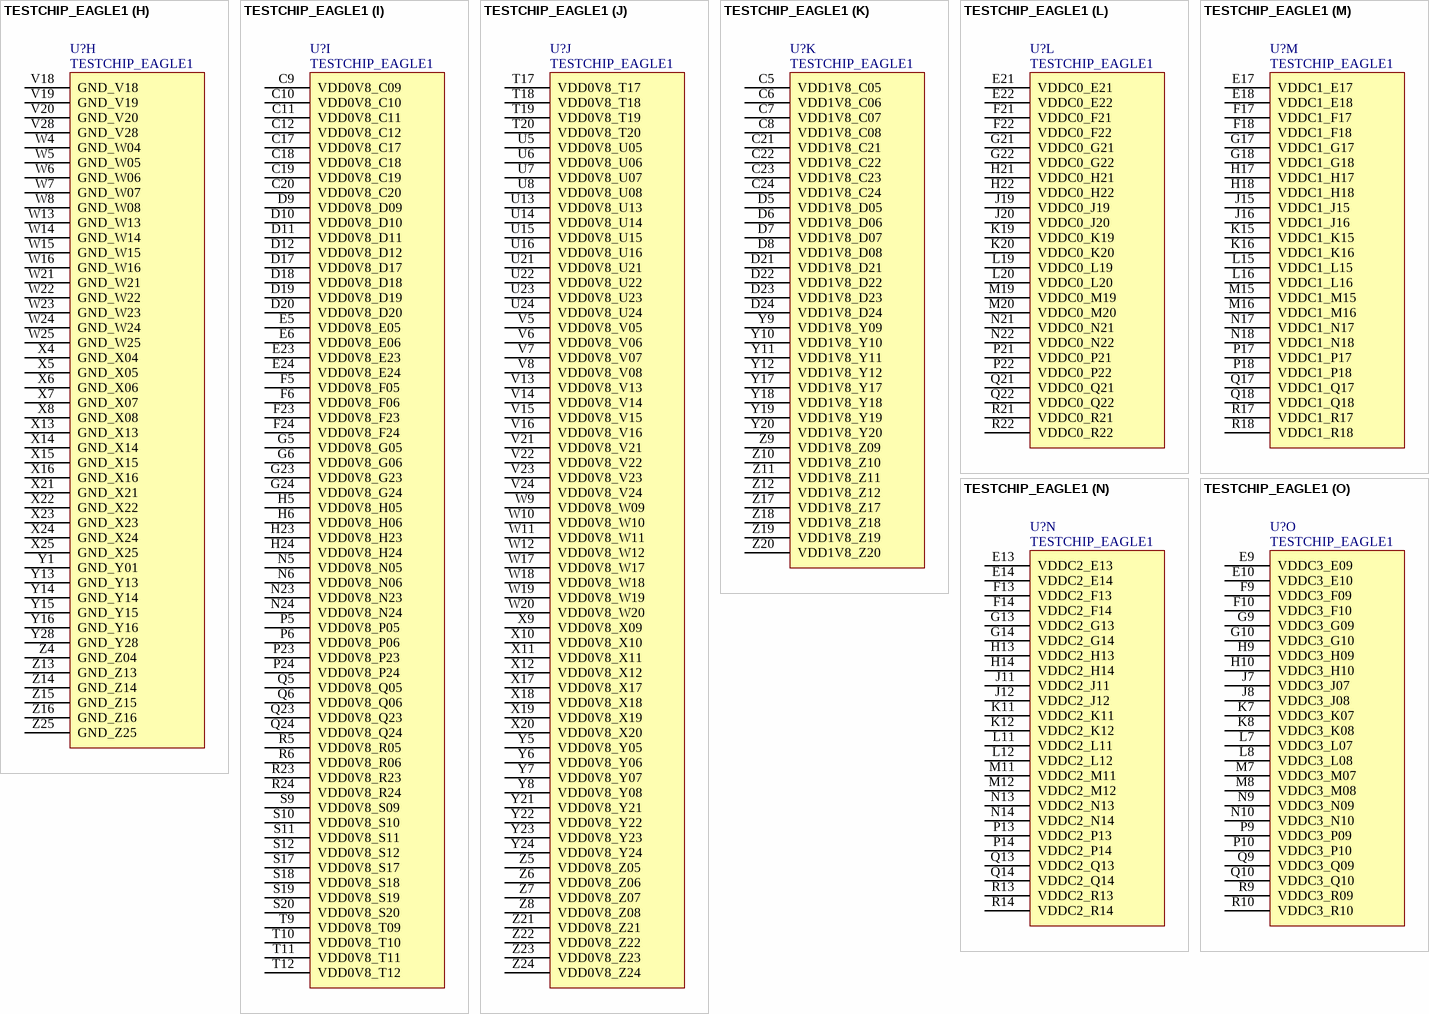
[diagram p13: symbol TESTCHIP_EAGLE1]

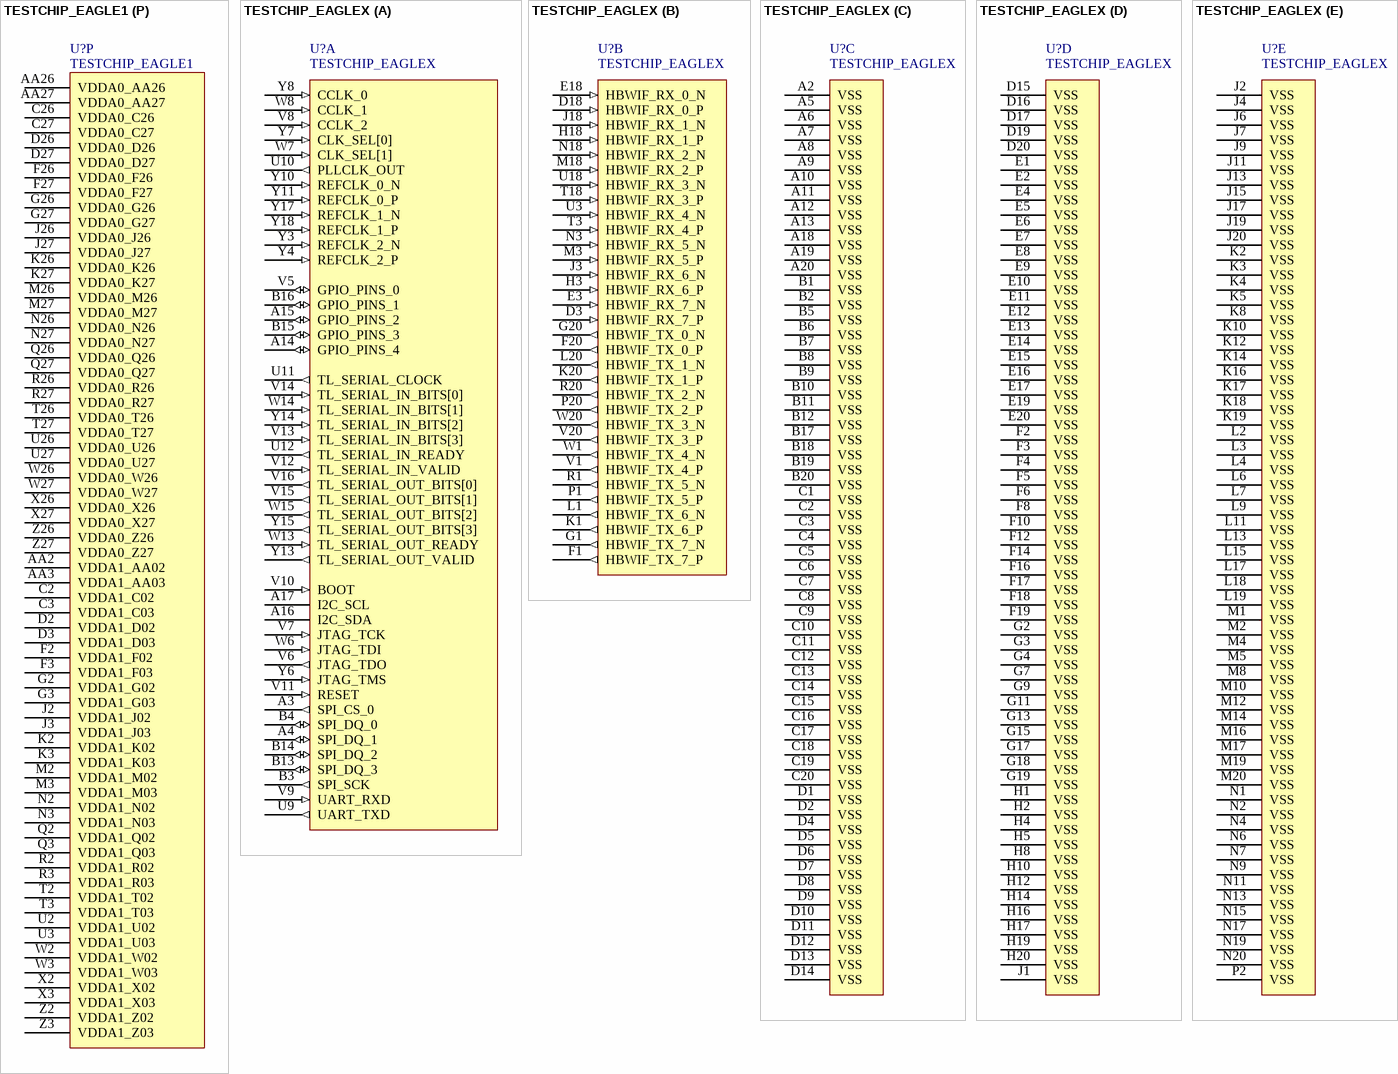
[diagram p14: symbols TESTCHIP_EAGLE1 to TESTCHIP_EAGLEX]